# Altium footprint library DRIVER-PCA9685PW_TSSOP28_.PcbLib: 1 footprints
Each footprint in its own frame and in the unit in brackets; x right, y up, seen from the top. Pads: shape width x height; smd on the part's side, far side on the other; paste and mask are expansions set on the pad; w line width, h text height; cw(c..) or ccw(c..) is an arc to the next point about the centre after c.
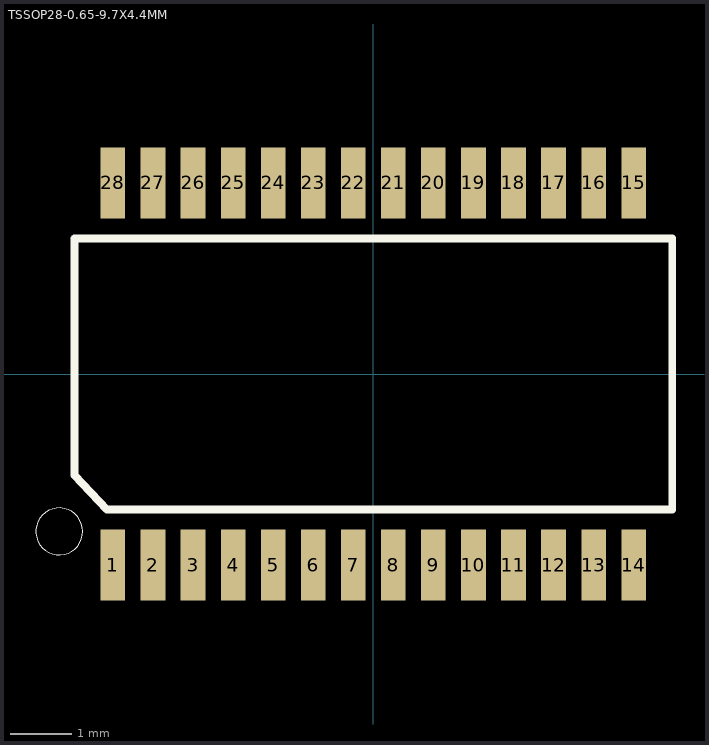
[diagram p0: the footprint, top view; thin cyan lines are the x and y axes]

## TSSOP28-0.65-9.7X4.4MM [mm]
pads (28):
  rect 0.4x1.15 smd paste-25.4 mask-25.4: 1(-4.225,-3.1) 2(-3.575,-3.1) 3(-2.925,-3.1) 4(-2.275,-3.1) 5(-1.625,-3.1) 6(-0.975,-3.1) 7(-0.325,-3.1) 8(0.325,-3.1) 9(0.975,-3.1) 10(1.625,-3.1) 11(2.275,-3.1) 12(2.925,-3.1) 13(3.575,-3.1) 14(4.225,-3.1) 15(4.225,3.1) 16(3.575,3.1) 17(2.925,3.1) 18(2.275,3.1) 19(1.625,3.1) 20(0.975,3.1) 21(0.325,3.1) 22(-0.325,3.1) 23(-0.975,3.1) 24(-1.625,3.1) 25(-2.275,3.1) 26(-2.925,3.1) 27(-3.575,3.1) 28(-4.225,3.1)
Top Overlay:
  circle w0: c-5.095,-2.555 r0.381
  lines w0.127: -4.85,-1.644 -4.85,2.2 4.85,2.2 4.85,-2.2 -4.319,-2.2 -4.85,-1.644
Top Paste:
  region: -4.025,2.525 -4.025,3.675 -4.425,3.675 -4.425,2.525
  region: -3.375,2.525 -3.375,3.675 -3.775,3.675 -3.775,2.525
  region: -2.725,2.525 -2.725,3.675 -3.125,3.675 -3.125,2.525
  region: -2.075,2.525 -2.075,3.675 -2.475,3.675 -2.475,2.525
  region: -1.425,2.525 -1.425,3.675 -1.825,3.675 -1.825,2.525
  region: -0.775,2.525 -0.775,3.675 -1.175,3.675 -1.175,2.525
  region: -0.125,2.525 -0.125,3.675 -0.525,3.675 -0.525,2.525
  region: 0.525,2.525 0.525,3.675 0.125,3.675 0.125,2.525
  region: 1.175,2.525 1.175,3.675 0.775,3.675 0.775,2.525
  region: 1.825,2.525 1.825,3.675 1.425,3.675 1.425,2.525
  region: 2.475,2.525 2.475,3.675 2.075,3.675 2.075,2.525
  region: 3.125,2.525 3.125,3.675 2.725,3.675 2.725,2.525
  region: 3.775,2.525 3.775,3.675 3.375,3.675 3.375,2.525
  region: 4.425,2.525 4.425,3.675 4.025,3.675 4.025,2.525
  region: 4.425,-3.675 4.425,-2.525 4.025,-2.525 4.025,-3.675
  region: 3.775,-3.675 3.775,-2.525 3.375,-2.525 3.375,-3.675
  region: 3.125,-3.675 3.125,-2.525 2.725,-2.525 2.725,-3.675
  region: 2.475,-3.675 2.475,-2.525 2.075,-2.525 2.075,-3.675
  region: 1.825,-3.675 1.825,-2.525 1.425,-2.525 1.425,-3.675
  region: 1.175,-3.675 1.175,-2.525 0.775,-2.525 0.775,-3.675
  region: 0.525,-3.675 0.525,-2.525 0.125,-2.525 0.125,-3.675
  region: -0.125,-3.675 -0.125,-2.525 -0.525,-2.525 -0.525,-3.675
  region: -0.775,-3.675 -0.775,-2.525 -1.175,-2.525 -1.175,-3.675
  region: -1.425,-3.675 -1.425,-2.525 -1.825,-2.525 -1.825,-3.675
  region: -2.075,-3.675 -2.075,-2.525 -2.475,-2.525 -2.475,-3.675
  region: -2.725,-3.675 -2.725,-2.525 -3.125,-2.525 -3.125,-3.675
  region: -3.375,-3.675 -3.375,-2.525 -3.775,-2.525 -3.775,-3.675
  region: -4.025,-3.675 -4.025,-2.525 -4.425,-2.525 -4.425,-3.675
Top Solder:
  region: -3.925,2.425 -3.925,3.775 -4.525,3.775 -4.525,2.425
  region: -3.275,2.425 -3.275,3.775 -3.875,3.775 -3.875,2.425
  region: -2.625,2.425 -2.625,3.775 -3.225,3.775 -3.225,2.425
  region: -1.975,2.425 -1.975,3.775 -2.575,3.775 -2.575,2.425
  region: -1.325,2.425 -1.325,3.775 -1.925,3.775 -1.925,2.425
  region: -0.675,2.425 -0.675,3.775 -1.275,3.775 -1.275,2.425
  region: -0.025,2.425 -0.025,3.775 -0.625,3.775 -0.625,2.425
  region: 0.625,2.425 0.625,3.775 0.025,3.775 0.025,2.425
  region: 1.275,2.425 1.275,3.775 0.675,3.775 0.675,2.425
  region: 1.925,2.425 1.925,3.775 1.325,3.775 1.325,2.425
  region: 2.575,2.425 2.575,3.775 1.975,3.775 1.975,2.425
  region: 3.225,2.425 3.225,3.775 2.625,3.775 2.625,2.425
  region: 3.875,2.425 3.875,3.775 3.275,3.775 3.275,2.425
  region: 4.525,2.425 4.525,3.775 3.925,3.775 3.925,2.425
  region: 4.525,-3.775 4.525,-2.425 3.925,-2.425 3.925,-3.775
  region: 3.875,-3.775 3.875,-2.425 3.275,-2.425 3.275,-3.775
  region: 3.225,-3.775 3.225,-2.425 2.625,-2.425 2.625,-3.775
  region: 2.575,-3.775 2.575,-2.425 1.975,-2.425 1.975,-3.775
  region: 1.925,-3.775 1.925,-2.425 1.325,-2.425 1.325,-3.775
  region: 1.275,-3.775 1.275,-2.425 0.675,-2.425 0.675,-3.775
  region: 0.625,-3.775 0.625,-2.425 0.025,-2.425 0.025,-3.775
  region: -0.025,-3.775 -0.025,-2.425 -0.625,-2.425 -0.625,-3.775
  region: -0.675,-3.775 -0.675,-2.425 -1.275,-2.425 -1.275,-3.775
  region: -1.325,-3.775 -1.325,-2.425 -1.925,-2.425 -1.925,-3.775
  region: -1.975,-3.775 -1.975,-2.425 -2.575,-2.425 -2.575,-3.775
  region: -2.625,-3.775 -2.625,-2.425 -3.225,-2.425 -3.225,-3.775
  region: -3.275,-3.775 -3.275,-2.425 -3.875,-2.425 -3.875,-3.775
  region: -3.925,-3.775 -3.925,-2.425 -4.525,-2.425 -4.525,-3.775